# Altium footprint library Library.PcbLib: 21 footprints (part 2 of 2)
Each footprint in its own frame and in the unit in brackets; x right, y up, seen from the top. Pads: shape width x height; smd on the part's side, far side on the other; paste and mask are expansions set on the pad; w line width, h text height; cw(c..) or ccw(c..) is an arc to the next point about the centre after c.
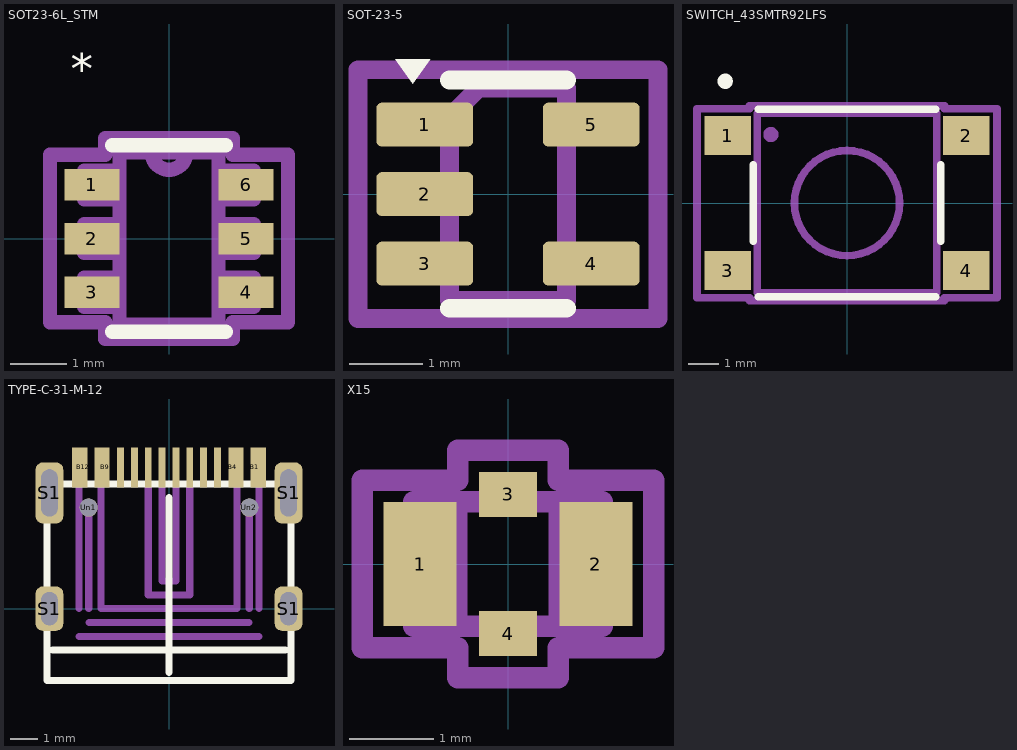
[diagram p1: the footprints below, top view; thin cyan lines are the x and y axes]

## SOT23-6L_STM [mil]
pads (6):
  rect 38.5x22 smd: 1(-53.75,37.4) 2(-53.75,0) 3(-53.75,-37.4) 4(53.75,-37.4) 5(53.75,0) 6(53.75,37.4)
F.SilkS:
  lines w10: -39.5,-65 39.5,-65 ; -39.5,65 39.5,65
  text "*" at -68.54,99.81 h39.37
  text "*" at -68.54,99.81 h39.37
F.CrtYd:
  lines w10: -83,-58.4 -83,58.4 -44.5,58.4 -44.5,70 44.5,70 44.5,58.4 83,58.4 83,-58.4 44.5,-58.4 44.5,-70 -44.5,-70 -44.5,-58.4 -83,-58.4
F.Fab:
  lines w10: -12,60 ccw(c0,60) 12,60 ; -59,-47.4 -59,-27.4 -34.5,-27.4 -34.5,-47.4 -59,-47.4 ; -59,-10 -59,10 -34.5,10 -34.5,-10 -59,-10 ; -59,27.4 -59,47.4 -34.5,47.4 -34.5,27.4 -59,27.4 ; -34.5,-60 -34.5,60 34.5,60 34.5,-60 -34.5,-60 ; 34.5,-47.4 34.5,-27.4 59,-27.4 59,-47.4 34.5,-47.4 ; 34.5,-10 34.5,10 59,10 59,-10 34.5,-10 ; 34.5,27.4 34.5,47.4 59,47.4 59,27.4 34.5,27.4
  text "'.Designator'" at -56.63,-15.69 h39.37
  text "*" at -24.29,52.4 h39.37
  text "*" at -24.29,52.4 h39.37

## SOT-23-5 [mm]
pads (5):
  rrect25% 1.325x0.6 smd: 1(-1.138,0.95) 2(-1.138,0) 3(-1.138,-0.95) 4(1.138,-0.95) 5(1.138,0.95)
F.SilkS:
  region: -1.3,1.51 -1.54,1.84 -1.06,1.84
  lines w0.254: -0.8,-1.56 0,-1.56 0.8,-1.56 ; -0.8,1.56 0,1.56 0.8,1.56
F.CrtYd:
  lines w0.254: -2.05,-1.7 -2.05,1.7 2.05,1.7 2.05,-1.7 -2.05,-1.7
F.Fab:
  lines w0.254: -0.8,-1.45 -0.8,1.05 -0.4,1.45 0.8,1.45 0.8,-1.45 -0.8,-1.45
  text "'.Designator'" at -0.576,-0.16 h0.4

## SWITCH_43SMTR92LFS [mm]
pads (4):
  rect 1.549x1.295 smd: 1(-3.975,2.25) 2(3.975,2.25) 3(-3.975,-2.25) 4(3.975,-2.25)
F.SilkS:
  circle w0.254: c-4.064,4.064 r0.127
  lines w0.254: -3.124,-1.278 -3.124,1.278 ; -2.957,-3.124 2.957,-3.124 ; -2.957,3.124 2.957,3.124 ; 3.124,-1.278 3.124,1.278
B.SilkS:
  circle w0.254: c-4.064,4.064 r0.127
F.CrtYd:
  lines w0.254: -5.004,-3.152 -5.004,3.152 -3.251,3.152 -3.251,3.251 3.251,3.251 3.251,3.152 5.004,3.152 5.004,-3.152 3.251,-3.152 3.251,-3.251 -3.251,-3.251 -3.251,-3.152 -5.004,-3.152
F.Fab:
  circle w0.254: c-2.54,2.286 r0.127
  circle w0.254: c0,0 r1.753
  lines w0.254: -2.997,-2.997 -2.997,2.997 2.997,2.997 2.997,-2.997 -2.997,-2.997
  text "'.Designator'" at -1.438,-0.398 h1

## TYPE-C-31-M-12 [mm]
pads (22):
  rect 0.25x1.45 smd: A1(-3.375,5.1) A4(-2.575,5.1) A5(-1.25,5.1) A6(-0.25,5.1) A7(0.25,5.1) A8(1.25,5.1) A9(2.575,5.1) A12(3.375,5.1) B5(1.75,5.1) B6(0.75,5.1) B7(-0.75,5.1) B8(-1.75,5.1)
  rect 0.3x1.45 smd: B1(3.1,5.1) B4(2.3,5.1) B9(-2.3,5.1) B12(-3.1,5.1)
  rrect50% 1x1.6 hole 1.2 slot 0.6 at 0 deg: S1(-4.32,0) S1(4.32,0)
  rrect50% 1x2.2 hole 1.7 slot 0.6 at 0 deg: S1(-4.32,4.18) S1(4.32,4.18)
  round 0.65 hole 0.65: Un1(-2.9,3.65) Un2(2.9,3.65)
F.SilkS:
  lines w0.254: -4.2,-1.5 4.2,-1.5 ; 0,-2.3 0,4.02 ; -4.4,-2.6 -4.4,4.5 4.4,4.5 4.4,-2.6 -4.4,-2.6
Dwgs.User:
  lines w0.254: -3.25,-1 3.25,-1 ; -3.25,0 -3.25,4.37 ; -2.9,0 -2.9,3.65 ; -2.89,-0.5 2.89,-0.5 ; -2.45,4.37 -2.45,0 2.45,0 2.45,4.37 ; -0.75,4.37 -0.75,0.5 0.75,0.5 0.75,4.37 ; -0.25,4.37 -0.25,1 0.25,1 0.25,4.37 ; 2.9,0 2.9,3.65 ; 3.25,0 3.25,4.37

## X15 [mil]
pads (4):
  rect 34x58 smd: 1(-41,0) 2(41,0)
  rect 27x21 smd: 3(0,32.5) 4(0,-32.5)
F.CrtYd:
  lines w10: -68,-39 -68,39 -23.5,39 -23.5,53 23.5,53 23.5,39 68,39 68,-39 23.5,-39 23.5,-53 -23.5,-53 -23.5,-39 -68,-39
F.Fab:
  circle w10: c-31,0 r0
  lines w10: -44,-29 -44,29 ; -44,-29 -44,29 ; -44,-29 -24,-29 -24,29 -44,29 ; -44,-29 44,-29 ; -44,29 44,29 ; 44,-29 24,-29 24,29 44,29 ; 44,-29 44,29 ; 44,-29 44,29
  text "'.Designator'" at -56.63,-15.69 h39.37